# EAGLE library part N25Q128A13 (library Rebel)
N25Q128A13 Flash Memory SO8W
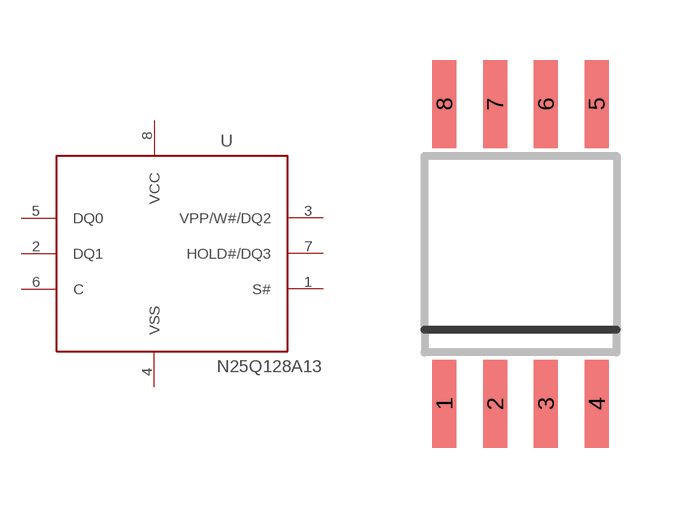
[diagram p14: symbol with the pads of SO8W; footprint SO8W]

Designator prefix -

## N25Q128A13  [SO8W]
1  S#
2  DQ1
3  VPP/W#/DQ2
4  VSS
5  DQ0
6  C
7  HOLD#/DQ3
8  VCC

## Footprint SO8W (pad centres in mm)
N25Q128A13 Flash Memory SO8W
smd 0.6 x 2.2: 1 -1.905,-3.75; 2 -0.635,-3.75; 3 0.635,-3.75; 4 1.905,-3.75; 5 1.905,3.75; 6 0.635,3.75; 7 -0.635,3.75; 8 -1.905,3.75